# Altium footprint library bowtie.PcbLib: 37 footprints (part 1 of 3)
Each footprint in its own frame and in the unit in brackets; x right, y up, seen from the top. Pads: shape width x height; smd on the part's side, far side on the other; paste and mask are expansions set on the pad; w line width, h text height; cw(c..) or ccw(c..) is an arc to the next point about the centre after c.
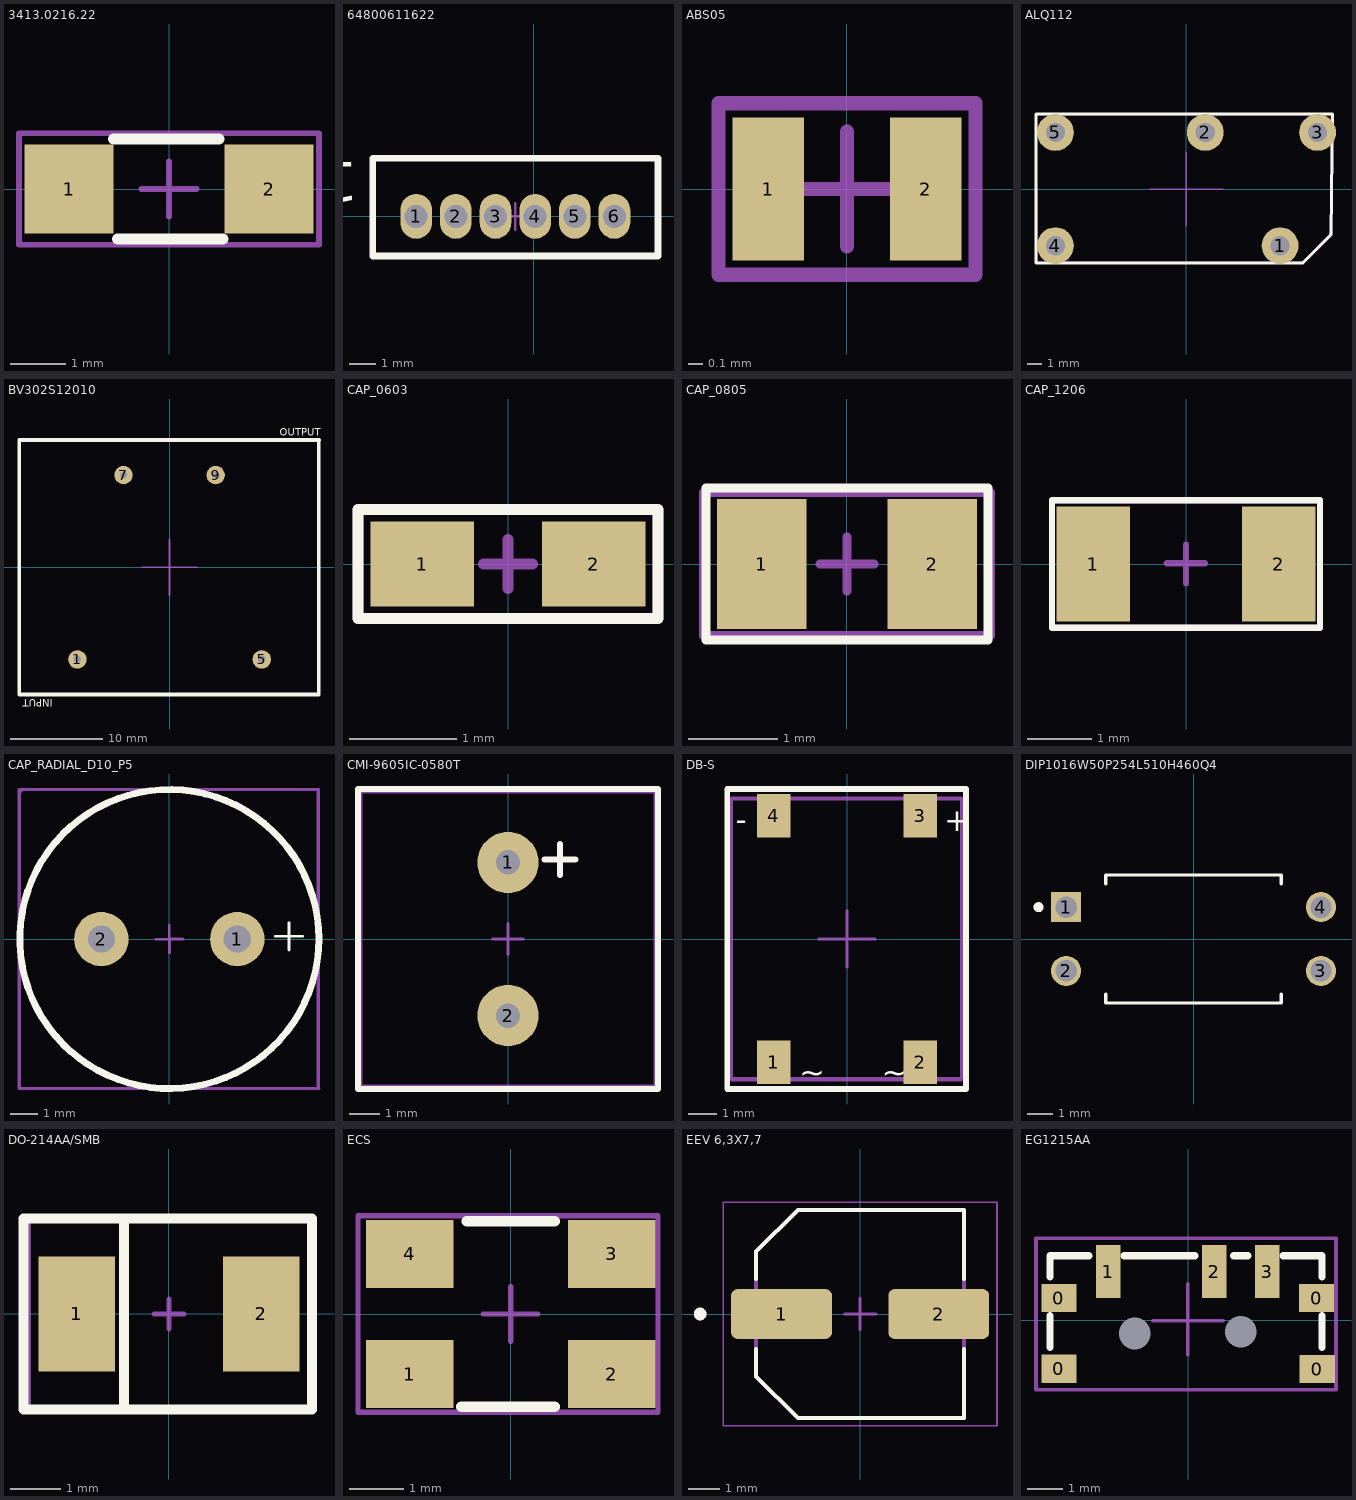
[diagram p0: the footprints below, top view; thin cyan lines are the x and y axes]

## 3413.0216.22 [mm]
pads (2):
  rect 1.6x1.6 smd paste-2539.97 mask+0.05: 1(-1.8,0) 2(1.8,0)
Top Overlay:
  lines w0.2: -1,0.9 0.9,0.9 ; -0.93,-0.9 0.97,-0.9
Top Component Center:
  lines w0.1: -0.5,0 0.5,0 ; 0,-0.5 0,0.5 0,0 ; -2.7,-1 -2.7,1 2.7,1 2.7,-1 -2.7,-1
Top Designator:
  lines w0.1: -2.7,-1 -2.7,1 2.7,1 2.7,-1 -2.7,-1
  text ".Designator" at -1.55,-0.283 h0.8
3D body "FUS1206_24N_SCH.step": height 0.61, standoff 0, extent -1.6,-0.8 1.6,0.8

## 64800611622 [mm]
pads (6):
  oval 1.2x1.7 hole 0.87 mask+0.05: 1(-4.45,0) 2(-2.95,0) 3(-1.45,0) 4(0.05,0) 5(1.55,0) 6(3.05,0)
Top Overlay:
  lines w0.25: -6.1,-1.5 4.7,-1.5 4.7,2.2 -6.1,2.2 -6.1,-1.5
  text "1" at -6.654,2.046 h1.52
Top Component Center:
  lines w0.1: -1.2,0 -0.2,0 ; -0.7,-0.5 -0.7,0.5 ; -6.1,-1.5 -6.1,2.2 4.7,2.2 4.7,-1.5 -6.1,-1.5
Top Designator:
  lines w0.1: -6.1,-1.5 4.7,-1.5 4.7,2.2 -6.1,2.2 -6.1,-1.5
  text ".Designator" at -4.646,0.362 h1.52
3D body "64800611622 (rev1).stp": height 4.75, standoff -2.45, extent -5.95,-1.4 4.55,2.1

## ABS05 [mm]
pads (2):
  rect 0.5x1 smd mask+0.05: 1(-0.55,0) 2(0.55,0)
Top Component Center:
  lines w0.1: -0.4,0 0.4,0 ; 0,-0.4 0,0.4 ; -0.9,-0.6 -0.9,0.6 0.9,0.6 0.9,-0.6 -0.9,-0.6
Top Designator:
  lines w0.1: -0.9,-0.6 -0.9,0.6 0.9,0.6 0.9,-0.6 -0.9,-0.6
  text ".Designator" at -1,-0.367 h0.7
3D body "ABS05.STEP": height 0.5, standoff 0, extent -0.8,-0.5 0.8,0.5

## ALQ112 [mm] "sonra bir kez daha bakılabilir"
pads (5):
  round 2.5 hole 1.3 paste-2539.97 mask+0.05: 1(6.35,-3.84) 2(1.27,3.84) 3(8.89,3.84) 4(-8.89,-3.84) 5(-8.89,3.84)
Top Overlay:
  lines w0.2: -10.2,-5 -10.2,5.1 9.9,5.1 9.8,-3.1 7.9,-5 -10.2,-5
Top 3D Body:
  lines w0.1: -10.175,-4.975 -10.175,5.025 9.825,5.025 9.825,-3.025 7.875,-4.975 -10.175,-4.975
Top Component Center:
  lines w0.1: -10.207,5.061 9.824,5.026 9.836,-2.973 7.865,-4.99 -10.161,-4.978 -10.184,5.06 ; -2.5,0 2.5,0 0,0 ; 0,-2.5 0,2.5
Top Designator:
  text ".Designator" at -2.346,-0.338 h1.52
3D body: height 15.6, standoff 0.4, extent -10.175,-4.975 9.825,5.025
3D body: height 0.45, standoff -3.75, extent 0.87,3.44 1.67,4.24
3D body: height 0.45, standoff -3.75, extent 8.49,3.44 9.29,4.24
3D body: height 0.45, standoff -3.75, extent 5.95,-4.24 6.75,-3.44
3D body: height 0.45, standoff -3.75, extent -9.29,-4.24 -8.49,-3.44
3D body: height 0.45, standoff -3.75, extent -9.29,3.44 -8.49,4.24

## BV302S12010 [mm]
pads (4):
  round 2 hole 0.8 paste-2539.97 mask+0.05: 1(-10,-10) 5(10,-10) 7(-5,10) 9(5,10)
Top Overlay:
  lines w0.4: -16.3,-13.8 16.2,-13.8 16.2,13.789 16.211,13.8 -16.3,13.8 -16.3,-13.8
  text "OUTPUT" at 11.95,14.25 h0.8
  text "INPUT" at -12.65,-14.35 h0.8
Top Component Center:
  lines w0.1: -16.337,-13.642 -16.337,13.858 16.163,13.858 16.163,-13.742 -16.237,-13.742 -16.337,-13.642
  lines w0.2: 0,-3 0,3 0,0 -3,0 3,0
Top Designator:
  lines w0.1: -16.3,-13.7 -16.3,13.8 16.2,13.8 16.2,-13.8 -16.2,-13.8 -16.3,-13.7
  text ".Designator" at 0.15,5.417 h0.8
3D body "User Library-Hahn BV EI 302 2902.step": height 21.8, standoff -4.5, extent -16.25,-13.75 16.25,13.75

## CAP_0603 [mil]
pads (2):
  rect 38x31 smd paste-99999 mask+1.97: 1(-31.5,0) 2(31.5,0)
Top Overlay:
  lines w3.94: -55,-20 55,-20 55,20 -55,20 -55,-20
Top Component Center:
  lines w3.94: -9,0 9,0 ; 0,-9 0,9 ; -55,-20 55,-20 55,20 -55,20 -55,-20
Top Designator:
  text ".Designator" at -16.06,-9.5 h19.68
3D body "CAPC0603.STEP": height 31.5, standoff 0, extent -41.35,-20.82 41.35,19.68

## CAP_0805 [mm]
pads (2):
  rect 1x1.45 smd paste-2539.97 mask+0.05: 1(-0.95,0) 2(0.95,0)
Top Overlay:
  lines w0.1: -1.575,-0.85 -1.575,0.85 1.575,0.85 1.575,-0.85 -1.575,-0.85
Top Component Center:
  lines w0.1: 0,-0.3 0,0.3 0,0 -0.3,0 0.3,0 ; -1.6,-0.8 1.6,-0.8 1.6,0.8 -1.6,0.8 -1.6,-0.8
Top Designator:
  text ".Designator" at -0.95,-0.383 h0.8
3D body "CAPC0805.STEP": height 0.9, standoff 0, extent -1.301,-0.678 1.301,0.678

## CAP_1206 [mm]
pads (2):
  rect 1.15x1.8 smd paste-2539.97 mask+0.05: 1(-1.45,0) 2(1.45,0)
Top Overlay:
  lines w0.1: -2.1,-1 -2.1,1 2.1,1 2.1,-1 -2.1,-1
Top Component Center:
  lines w0.1: -0.302,0.014 -0.002,0.014 0.298,0.014 ; 0,-0.3 0,0 0,0.3 ; -2.1,-1 -2.1,1 2.1,1 2.1,-1 -2.1,-1
Top Designator:
  lines w0.1: -2.1,-1 -2.1,1 2.1,1 2.1,-1 -2.1,-1
  text ".Designator" at -1.55,-0.283 h0.8
3D body "CAPC1206.STEP": height 1.3, standoff -0.01, extent -1.975,-0.976 1.975,0.976

## CAP_RADIAL_D10_P5 [mm]
pads (2):
  round 2 hole 1 paste-2539.97 mask+0.05: 1(2.5,0) 2(-2.5,0)
Top Overlay:
  circle w0.254: c0,0 r5.5
  lines w0.1: 3.9,0.1 4.15,0.1 4.65,0.1 4.9,0.1 ; 4.4,-0.4 4.4,-0.15 4.4,0.35 4.4,0.6
Top Component Center:
  lines w0.1: -5.53,5.403 -5.43,5.503 ; -0.492,-0.003 0.008,-0.003 ; 0,0.5 0,0 0.5,0 ; 0.005,-0.503 0.005,-0.003 ; 5.465,5.5 5.462,5.503 5.305,5.503 5.27,5.503 -5.53,5.503 -5.53,-5.497 5.475,-5.497 5.47,-5.493 5.47,5.303 5.47,5.495
Top Designator:
  lines w0.1: -5.5,5.4 -5.4,5.5 ; 5.495,5.497 5.492,5.5 5.335,5.5 5.3,5.5 -5.5,5.5 -5.5,-5.5 5.505,-5.5 5.5,-5.495 5.5,5.3 5.5,5.492
  text ".Designator" at -3.65,1.617 h0.8
3D body "CAP_ESH_H4_KEM.step": height 22.01, standoff -4.37, extent -5.269,-5.242 5.245,5.242

## CMI-9605IC-0580T [mm]
pads (2):
  round 2 hole 0.8 paste-2539.97 mask+0.05: 1(0,2.5) 2(0,-2.5)
Top Overlay:
  lines w0.2: 1.7,2.6 2.2,2.6 1.2,2.6 1.7,2.6 ; 1.7,2.6 1.7,2.1 1.7,3.1 1.7,2.6 ; -4.9,-4.9 -4.9,4.9 4.9,4.9 4.9,-4.9 -4.9,-4.9
Top 3D Body:
  lines w0.1: -4.8,-4.8 -4.8,4.8 4.8,4.8 4.8,-4.8 -4.8,-4.8
Top Component Center:
  lines w0.1: 0,-0.5 0,0.5 0,0 -0.5,0 0.5,0 ; -4.8,-4.8 -4.8,4.8 4.8,4.8 4.8,-4.8 -4.8,-4.8
Top Designator:
  text ".Designator" at -0.846,-0.338 h1.52
3D body: height 5.1, standoff 0.1, extent -4.8,-4.8 4.8,4.8
3D body: height 2, standoff -3.5, extent -0.3,-2.8 0.3,-2.2
3D body: height 0.2, standoff -5.3, extent -0.3,2.2 0.3,2.8

## DB-S [mm]
pads (4):
  rect 1.2x1.55 smd paste-2539.97 mask+0.05: 1(-2.6,-4.37) 2(2.6,-4.37) 3(2.6,4.37) 4(-2.6,4.37)
Top Overlay:
  lines w0.2: -4.25,-5.325 4.225,-5.325 4.225,5.325 -2.55,5.325 -4.25,5.325 -4.25,-5.325
  text "~" at 1.225,-5.116 h0.8
  text "~" at -1.7,-5.116 h0.8
  text "+" at 3.45,3.817 h0.8
  text "-" at -3.95,3.85 h0.8
Top 3D Body:
  lines w0.1: -4.1,-4.956 -4.1,4.971 4.062,4.971 4.062,-4.956 -4.1,-4.956
Top Component Center:
  lines w0.1: -1,0 0,0 ; 4.057,-5 -4.1,-5 -4.1,5 4.061,5 4.061,-4.95 4.057,-4.95 ; 0,0 0,1 0,-1 0,0 ; 0,0 1,0 0,0
Top Designator:
  text ".Designator" at -0.65,0.442 h0.8
3D body "DB-S.STEP": height 2.7, standoff 0, extent -4.075,-4.95 4.075,4.95

## DIP1016W50P254L510H460Q4 [mm]
pads (4):
  rect 1.2x1.2 hole 0.85: 1(-5.08,1.27)
  round 1.2 hole 0.85: 2(-5.08,-1.27) 3(5.08,-1.27) 4(5.08,1.27)
Top Overlay:
  circle w0.2: c-6.18,1.27 r0.1
  lines w0.127: -3.5,-2.2 -3.5,-2.55 3.5,-2.55 3.5,-2.2 ; -3.5,2.2 -3.5,2.55 3.5,2.55 3.5,2.2

## DO-214AA/SMB [mm] "DO-214AA/SMB"
pads (2):
  rect 1.52x2.3 smd paste-2539.97 mask+0.05: 1(-1.839,0) 2(1.84,0)
Top Overlay:
  lines w0.2: -0.9,-1.9 -0.9,1.9 ; -0.9,1.9 -0.9,1.9 ; -2.9,-1.9 2.853,-1.9 2.853,1.9 -2.9,1.9 -2.9,-1.9
Top Component Center:
  lines w0.1: -2.8,1.886 -2.8,1.8 -2.8,-1.9 2.8,-1.9 2.8,1.9 -2.7,1.9 -2.786,1.9 ; -0.3,0 0,0 ; 0,-0.3 0,0 ; 0,0.3 0,0 ; 0.3,0 0,0
Top Designator:
  text ".Designator" at -0.65,-0.083 h0.8
3D body "1SMB5919BT3G.STEP": height 2.39, standoff -0.08, extent -2.72,-1.78 2.72,1.78

## ECS [mm]
pads (4):
  rect 1.6x1.25 smd mask+0.05: 1(-1.85,-1.1) 2(1.85,-1.1) 3(1.85,1.1) 4(-1.85,1.1)
Top Overlay:
  lines w0.2: -0.9,-1.7 0.8,-1.7 ; -0.8,1.7 0.8,1.7
Top Component Center:
  lines w0.1: -0.5,0 0.5,0 ; 0,-0.5 0,0.5 ; -2.8,-1.8 -2.8,1.8 2.7,1.8 2.7,-1.8 -2.8,-1.8
Top Designator:
  lines w0.1: -2.8,-1.8 -2.8,1.8 2.7,1.8 2.7,-1.8 -2.8,-1.8
  text ".Designator" at -2.246,-0.638 h1.52
3D body "ECS-160-20-30B-TR.STEP": height 0.85, standoff 0, extent -2.5,-1.6 2.5,1.6

## EEV 6,3X7,7 [mm]
pads (2):
  rrect25% 3.2x1.58 smd: 1(-2.495,0) 2(2.495,0)
Top Overlay:
  circle w0.2: c-5.08,0 r0.1
  lines w0.127: -3.3,-1.11 -3.3,-1.98 -1.98,-3.3 3.3,-3.3 3.3,-1.11 ; -3.3,1.11 -3.3,1.98 -1.98,3.3 3.3,3.3 3.3,1.11
Top Component Center:
  circle w0.2: c-5.08,0 r0.1
  lines w0.1: -0.5,0 0,0 ; 0,-0.5 0,0 ; 0,0.5 0,0 ; 0.5,0 0,0
  lines w0.127: -3.3,-1.98 -3.3,1.98 -1.98,3.3 3.3,3.3 3.3,-3.3 -1.98,-3.3 -3.3,-1.98
Top Designator:
  text ".Designator" at -1.95,-1.983 h0.8
Mechanical 15:
  lines w0.05: -4.345,-3.55 4.345,-3.55 4.345,3.55 -4.345,3.55 -4.345,-3.55
3D body "EEV686M035A9HAA.step": height 7.71, standoff -0.3, extent -3.8,-3.4 3.8,3.4

## EG1215AA [mm]
pads (9):
  rect 1x0.8 smd paste-2539.97 mask+0.05: 0(-3.66,-1.371) 0(-3.66,0.629) 0(3.64,0.629) 0(3.66,-1.379)
  rect 0.7x1.5 smd paste-2539.97 mask+0.05: 1(-2.26,1.379) 2(0.74,1.379) 3(2.24,1.379)
  rect 0x0 hole 0.9 paste-2539.97 mask+0.05: ""(-1.51,-0.371) ""(1.49,-0.325)
Top Overlay:
  lines w0.2: -3.91,-0.771 -3.91,0.129 ; -3.91,1.229 -3.91,1.829 -2.81,1.829 ; -1.81,1.829 0.19,1.829 ; 1.29,1.829 1.69,1.829 ; 2.69,1.829 3.79,1.829 3.79,1.229 ; 3.79,-0.771 3.79,0.129
Top Component Center:
  lines w0.1: -1.001,-0.01 0.999,-0.01 ; -0.01,-0.971 -0.01,1.029 -0.01,0.029 ; -4.31,-1.971 4.19,-1.971 4.19,2.329 -4.31,2.329 -4.31,1.829 -4.31,-1.971
Top Designator:
  text ".Designator" at -1.76,-1.954 h0.8
3D body "EG1215AA--3DModel-STEP-1.STEP": height 1.35, standoff -0.35, extent -3.86,-3.071 3.84,1.829